# Altium schematic symbol library ARDUINO_MINI_PRO.SchLib: 1 symbol
Pins are listed as number, name and electrical type; pins without a type are passive.

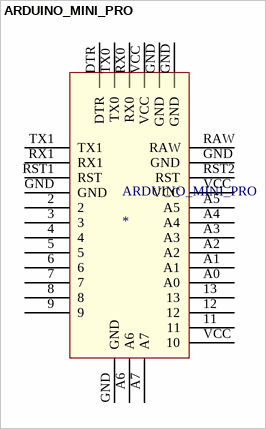
[diagram p0: symbol ARDUINO_MINI_PRO]

## ARDUINO_MINI_PRO
designator ARDUINO_MINI_PRO
footprint ARDUINO_MINI_PRO
pins: 2, 3, 4, 5, 6, 7, 8, 9, 11, 12, 13, A0, A1, A2, A3, A4, A5, A6, A7, DTR, GND, GND, GND, GND, GND, RAW, RST1 RST, RST2 RST, RX0, RX1, TX0, TX1, VCC (power), VCC (power), VCC 10 (power)